# Altium footprint library MF-CONNECTORS.PcbLib: 12 footprints
Each footprint in its own frame and in the unit in brackets; x right, y up, seen from the top. Pads: shape width x height; smd on the part's side, far side on the other; paste and mask are expansions set on the pad; w line width, h text height; cw(c..) or ccw(c..) is an arc to the next point about the centre after c.
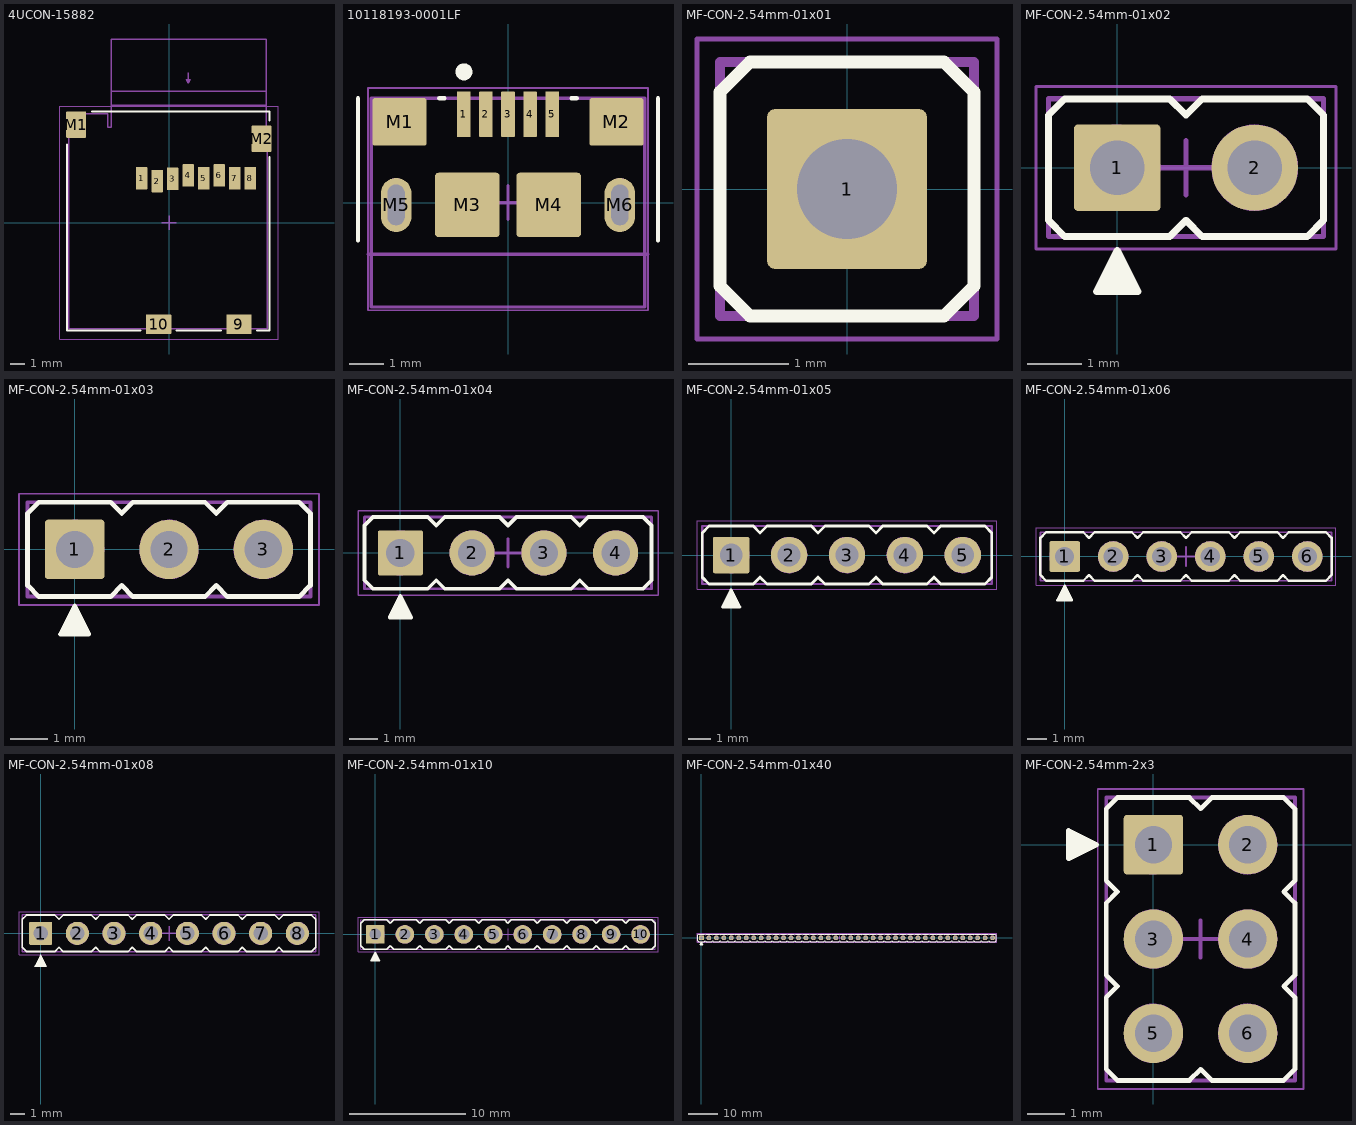
[diagram p0: the footprints below, top view; thin cyan lines are the x and y axes]

## 4UCON-15882 [mm] "Micro SD Card Slot PUSH PUSH Type Right Angle"
height 1.85
pads (12):
  rrect10% 0.8x1.6 smd mask+0.05: 1(-1.938,3.15) 2(-0.838,2.95) 3(0.262,3.11) 4(1.362,3.35) 5(2.462,3.15) 6(3.562,3.35) 7(4.662,3.15) 8(5.762,3.15)
  rrect10% 1.8x1.4 smd mask+0.05: 9(4.962,-7.2) 10(-0.738,-7.2)
  rrect10% 1.4x1.9 smd mask+0.05: M1(-6.588,6.95) M2(6.562,5.95)
Top Overlay:
  lines w0.127: -7.223,5.565 -7.223,-7.643 -2.016,-7.643 ; -5.461,7.874 7.128,7.874 7.128,7.239 ; 0.524,-7.643 3.699,-7.643 ; 6.239,-7.643 7.128,-7.643 7.128,4.676
Top Assembly:
  lines w0.1: -4.096,8.324 6.904,8.324 ; -4.096,9.324 6.904,9.324 ; 1.366,10.635 1.366,9.873 ; 1.366,9.873 1.239,10.127 1.493,10.127 1.366,9.873 ; -7.096,-7.526 -7.096,7.724 -4.349,7.717 -4.349,6.774 -4.096,6.774 -4.096,13.024 6.904,13.024 6.904,6.774 6.954,6.774 6.954,-7.526 -7.096,-7.526
  text "PUSH IN" at 0.701,7.891 h0.2
  text "CARD LOCK" at 0.655,8.917 h0.2
  text "PUSH OUT" at 0.528,12.6 h0.2
Top Courtyard:
  lines w0.05: -7.75,-8.25 -7.75,8.25 7.75,8.25 7.75,-8.25 -7.75,-8.25
  lines w0.1: -0.5,0 0.5,0 ; 0,-0.5 0,0.5
3D body: height 1.85, standoff 0, extent -7.096,-7.526 6.954,7.724

## 10118193-0001LF [mm] "Micro USB Connector Type B Right Angle"
height 3.1
pads (11):
  rrect10% 0.4x1.35 smd paste+0 mask+0.05: 1(-1.3,2.605) 2(-0.65,2.605) 3(0,2.605) 4(0.65,2.605) 5(1.3,2.605)
  rrect10% 1.6x1.4 smd paste+0 mask+0.05: M1(-3.2,2.38) M2(3.2,2.38)
  rrect10% 1.9x1.9 smd paste+0 mask+0.05: M3(-1.2,-0.07) M4(1.2,-0.07)
  rrect100% 0.9x1.6 hole 1.2 slot 0.5 at 0 deg paste-1000 mask+0.05: M5(-3.3,-0.07) M6(3.3,-0.07)
Top Overlay:
  circle w0.25: c-1.3,3.855 r0.125
  lines w0.127: -4.425,-1.12 -4.425,3.08 ; -2.025,3.08 -1.875,3.08 ; 1.875,3.08 2.025,3.08 ; 4.425,-1.12 4.425,3.08
Top Assembly:
  lines w0.1: -4.13,-1.52 4.13,-1.52 ; -4.03,-3.08 -4.03,3.08 4.03,3.08 4.03,-3.08 -4.03,-3.08
Bottom THT Solder (Mech12):
  lines w0.7: -3.302,-0.508 -3.302,0.381 ; 3.302,-0.508 3.302,0.381
Top Courtyard:
  lines w0.05: -4.13,-3.18 -4.13,3.38 4.13,3.38 4.13,-3.18 -4.13,-3.18
  lines w0.1: -0.5,0 0.5,0 ; 0,-0.5 0,0.5
3D body "Conn_Amphenol_ICC_-_FCI_10118193-0001LF_eec.STEP": height 0.25, standoff 0, extent -4.13,-3.18 4.13,3.38

## MF-CON-2.54mm-01x01 [mm] "2.54mm 1x1 Unshrouded 1 Pins, 1 Row of 1, 01x01"
height 6
pads (1):
  rrect10% 1.6x1.6 hole 1 mask+0.07: 1(0,0)
Top Overlay:
  lines w0.127: -1.27,-0.97 -1.27,0.97 -0.97,1.27 0.97,1.27 1.27,0.97 1.27,-0.97 0.97,-1.27 -0.97,-1.27 -1.27,-0.97
Top Assembly:
  lines w0.1: -1.27,-1.27 1.27,-1.27 1.27,1.27 -1.27,1.27 -1.27,-1.27
Bottom THT Solder (Mech12):
  circle w0.8: c0,0 r0.4
Top Courtyard:
  lines w0.05: -1.5,-1.5 -1.5,1.5 1.5,1.5 1.5,-1.5 -1.5,-1.5
  lines w0.1: -0.5,0 0.5,0 ; 0,-0.5 0,0.5
3D body "User Library-Header Vertical 2_54mm Pitch2-1.x_t": height 5.95, standoff -2.93, extent -1.27,-1.27 1.27,1.27

## MF-CON-2.54mm-01x02 [mm] "2.54mm 1x2 Unshrouded 2 Pins, 1 Row of 2, 01x02"
height 6
pads (2):
  rrect10% 1.6x1.6 hole 1 mask+0.07: 1(0,0)
  round 1.6 hole 1 mask+0.07: 2(2.54,0)
Top Overlay:
  region: 0,-1.524 0.381,-2.286 -0.381,-2.286
  lines w0.127: -1.27,-0.97 -1.27,0.97 -0.97,1.27 0.97,1.27 1.27,0.97 1.57,1.27 3.51,1.27 3.81,0.97 3.81,-0.97 3.51,-1.27 1.57,-1.27 1.27,-0.97 0.97,-1.27 -0.97,-1.27 -1.27,-0.97 ; -0.381,-2.286 0.381,-2.286 0,-1.524 -0.381,-2.286
Top Assembly:
  lines w0.1: -1.27,-1.27 3.81,-1.27 3.81,1.27 -1.27,1.27 -1.27,-1.27
Bottom THT Solder (Mech12):
  circle w0.8: c2.54,0 r0.4
  circle w0.8: c0,0 r0.4
Top Courtyard:
  lines w0.05: -1.5,-1.5 -1.5,1.5 4.04,1.5 4.04,-1.5 -1.5,-1.5
  lines w0.1: 0.77,0 1.77,0 ; 1.27,-0.5 1.27,0.5
3D body "User Library-Header Vertical 2_54mm Pitch2-1.x_t": height 5.95, standoff -2.93, extent 1.27,-1.27 3.81,1.27
3D body "User Library-Header Vertical 2_54mm Pitch2-1.x_t": height 5.95, standoff -2.93, extent -1.27,-1.27 1.27,1.27

## MF-CON-2.54mm-01x03 [mm] "2.54mm 1x3 Unshrouded 3 Pins, 1 Row of 3, 01x03"
height 6
pads (3):
  rrect10% 1.6x1.6 hole 1 mask+0.07: 1(0,0)
  round 1.6 hole 1 mask+0.07: 2(2.54,0) 3(5.08,0)
Top Overlay:
  region: 0,-1.524 0.381,-2.286 -0.381,-2.286
  lines w0.127: -1.27,-0.97 -0.97,-1.27 0.97,-1.27 1.27,-0.97 1.57,-1.27 3.51,-1.27 3.81,-0.97 4.11,-1.27 6.05,-1.27 6.35,-0.97 6.35,0.97 6.05,1.27 4.11,1.27 3.81,0.97 3.51,1.27 1.57,1.27 1.27,0.97 0.97,1.27 -0.97,1.27 -1.27,0.97 -1.27,-0.97 ; -0.381,-2.286 0.381,-2.286 0,-1.524 -0.381,-2.286
Top Assembly:
  lines w0.1: -1.27,-1.27 -1.27,1.27 6.35,1.27 6.35,-1.27 -1.27,-1.27
Bottom THT Solder (Mech12):
  circle w0.8: c5.08,0 r0.4
  circle w0.8: c0,0 r0.4
  circle w0.8: c2.54,0 r0.4
Top Courtyard:
  lines w0.05: -1.5,-1.5 6.58,-1.5 6.58,1.5 -1.5,1.5 -1.5,-1.5
  lines w0.1: 2.04,0 3.04,0 ; 2.54,-0.5 2.54,0.5
3D body "User Library-Header Vertical 2_54mm Pitch2-1.x_t": height 5.95, standoff -2.93, extent 3.81,-1.27 6.35,1.27
3D body "User Library-Header Vertical 2_54mm Pitch2-1.x_t": height 5.95, standoff -2.93, extent -1.27,-1.27 1.27,1.27
3D body "User Library-Header Vertical 2_54mm Pitch2-1.x_t": height 5.95, standoff -2.93, extent 1.27,-1.27 3.81,1.27

## MF-CON-2.54mm-01x04 [mm] "2.54mm 1x4 Unshrouded 4 Pins, 1 Row of 4, 01x04"
height 6
pads (4):
  rrect10% 1.6x1.6 hole 1 mask+0.07: 1(0,0)
  round 1.6 hole 1 mask+0.07: 2(2.54,0) 3(5.08,0) 4(7.62,0)
Top Overlay:
  region: 0,-1.524 0.381,-2.286 -0.381,-2.286
  lines w0.127: -1.27,-0.97 -0.97,-1.27 0.97,-1.27 1.27,-0.97 1.57,-1.27 3.51,-1.27 3.81,-0.97 4.11,-1.27 6.05,-1.27 6.35,-0.97 6.65,-1.27 8.59,-1.27 8.89,-0.97 8.89,0.97 8.59,1.27 6.65,1.27 6.35,0.97 6.05,1.27 4.11,1.27 3.81,0.97 3.51,1.27 1.57,1.27 1.27,0.97 0.97,1.27 -0.97,1.27 -1.27,0.97 -1.27,-0.97 ; -0.381,-2.286 0,-1.524 0.381,-2.286 -0.381,-2.286
Top Assembly:
  lines w0.1: -1.27,-1.27 -1.27,1.27 8.89,1.27 8.89,-1.27 -1.27,-1.27
Bottom THT Solder (Mech12):
  circle w0.8: c5.08,0 r0.4
  circle w0.8: c0,0 r0.4
  circle w0.8: c2.54,0 r0.4
  circle w0.8: c7.62,0 r0.4
Top Courtyard:
  lines w0.05: -1.5,-1.5 9.12,-1.5 9.12,1.5 -1.5,1.5 -1.5,-1.5
  lines w0.1: 3.31,0 4.31,0 ; 3.81,-0.5 3.81,0.5
3D body "User Library-Header Vertical 2_54mm Pitch2-1.x_t": height 5.95, standoff -2.93, extent 3.81,-1.27 6.35,1.27
3D body "User Library-Header Vertical 2_54mm Pitch2-1.x_t": height 5.95, standoff -2.93, extent -1.27,-1.27 1.27,1.27
3D body "User Library-Header Vertical 2_54mm Pitch2-1.x_t": height 5.95, standoff -2.93, extent 1.27,-1.27 3.81,1.27
3D body "User Library-Header Vertical 2_54mm Pitch2-1.x_t": height 5.95, standoff -2.93, extent 6.35,-1.27 8.89,1.27

## MF-CON-2.54mm-01x05 [mm] "2.54mm 1x5 Unshrouded 5 Pins, 1 Row of 5, 01x05"
height 6
pads (5):
  rrect10% 1.6x1.6 hole 1 mask+0.07: 1(0,0)
  round 1.6 hole 1 mask+0.07: 2(2.54,0) 3(5.08,0) 4(7.62,0) 5(10.16,0)
Top Overlay:
  region: 0,-1.524 0.381,-2.286 -0.381,-2.286
  lines w0.127: -1.27,-0.97 -1.27,0.97 -0.97,1.27 0.97,1.27 1.27,0.97 1.57,1.27 3.51,1.27 3.81,0.97 4.11,1.27 6.05,1.27 6.35,0.97 6.65,1.27 8.59,1.27 8.89,0.97 9.19,1.27 11.13,1.27 11.43,0.97 11.43,-0.97 11.13,-1.27 9.19,-1.27 8.89,-0.97 8.59,-1.27 6.65,-1.27 6.35,-0.97 6.05,-1.27 4.11,-1.27 3.81,-0.97 3.51,-1.27 1.57,-1.27 1.27,-0.97 0.97,-1.27 -0.97,-1.27 -1.27,-0.97 ; -0.381,-2.286 0,-1.524 0.381,-2.286 -0.381,-2.286
Top Assembly:
  lines w0.1: -1.27,-1.27 11.43,-1.27 11.43,1.27 -1.27,1.27 -1.27,-1.27
Bottom THT Solder (Mech12):
  circle w0.8: c7.62,0 r0.4
  circle w0.8: c2.54,0 r0.4
  circle w0.8: c0,0 r0.4
  circle w0.8: c5.08,0 r0.4
  circle w0.8: c10.16,0 r0.4
Top Courtyard:
  lines w0.05: -1.5,-1.5 -1.5,1.5 11.66,1.5 11.66,-1.5 -1.5,-1.5
  lines w0.1: 4.58,0 5.58,0 ; 5.08,-0.5 5.08,0.5
3D body "User Library-Header Vertical 2_54mm Pitch2-1.x_t": height 5.95, standoff -2.93, extent 6.35,-1.27 8.89,1.27
3D body "User Library-Header Vertical 2_54mm Pitch2-1.x_t": height 5.95, standoff -2.93, extent 1.27,-1.27 3.81,1.27
3D body "User Library-Header Vertical 2_54mm Pitch2-1.x_t": height 5.95, standoff -2.93, extent -1.27,-1.27 1.27,1.27
3D body "User Library-Header Vertical 2_54mm Pitch2-1.x_t": height 5.95, standoff -2.93, extent 3.81,-1.27 6.35,1.27
3D body "User Library-Header Vertical 2_54mm Pitch2-1.x_t": height 5.95, standoff -2.93, extent 8.89,-1.27 11.43,1.27

## MF-CON-2.54mm-01x06 [mm] "2.54mm 1x6 Unshrouded 6 Pins, 1 Row of 6, 01x06"
height 6
pads (6):
  rrect10% 1.6x1.6 hole 1 mask+0.07: 1(0,0)
  round 1.6 hole 1 mask+0.07: 2(2.54,0) 3(5.08,0) 4(7.62,0) 5(10.16,0) 6(12.7,0)
Top Overlay:
  region: 0,-1.524 0.381,-2.286 -0.381,-2.286
  lines w0.127: -1.27,-0.97 -1.27,0.97 -0.97,1.27 0.97,1.27 1.27,0.97 1.57,1.27 3.51,1.27 3.81,0.97 4.11,1.27 6.05,1.27 6.35,0.97 6.65,1.27 8.59,1.27 8.89,0.97 9.19,1.27 11.13,1.27 11.43,0.97 11.73,1.27 13.67,1.27 13.97,0.97 13.97,-0.97 13.67,-1.27 11.73,-1.27 11.43,-0.97 11.13,-1.27 9.19,-1.27 8.89,-0.97 8.59,-1.27 6.65,-1.27 6.35,-0.97 6.05,-1.27 4.11,-1.27 3.81,-0.97 3.51,-1.27 1.57,-1.27 1.27,-0.97 0.97,-1.27 -0.97,-1.27 -1.27,-0.97 ; -0.381,-2.286 0,-1.524 0.381,-2.286 -0.381,-2.286
Top Assembly:
  lines w0.1: -1.27,-1.27 13.97,-1.27 13.97,1.27 -1.27,1.27 -1.27,-1.27
Bottom THT Solder (Mech12):
  circle w0.8: c12.7,0 r0.4
  circle w0.8: c7.62,0 r0.4
  circle w0.8: c2.54,0 r0.4
  circle w0.8: c0,0 r0.4
  circle w0.8: c5.08,0 r0.4
  circle w0.8: c10.16,0 r0.4
Top Courtyard:
  lines w0.05: -1.5,-1.5 -1.5,1.5 14.2,1.5 14.2,-1.5 -1.5,-1.5
  lines w0.1: 5.85,0 6.85,0 ; 6.35,-0.5 6.35,0.5
3D body "User Library-Header Vertical 2_54mm Pitch2-1.x_t": height 5.95, standoff -2.93, extent 11.43,-1.27 13.97,1.27
3D body "User Library-Header Vertical 2_54mm Pitch2-1.x_t": height 5.95, standoff -2.93, extent 6.35,-1.27 8.89,1.27
3D body "User Library-Header Vertical 2_54mm Pitch2-1.x_t": height 5.95, standoff -2.93, extent 1.27,-1.27 3.81,1.27
3D body "User Library-Header Vertical 2_54mm Pitch2-1.x_t": height 5.95, standoff -2.93, extent -1.27,-1.27 1.27,1.27
3D body "User Library-Header Vertical 2_54mm Pitch2-1.x_t": height 5.95, standoff -2.93, extent 3.81,-1.27 6.35,1.27
3D body "User Library-Header Vertical 2_54mm Pitch2-1.x_t": height 5.95, standoff -2.93, extent 8.89,-1.27 11.43,1.27

## MF-CON-2.54mm-01x08 [mm] "2.54mm 1x8 Unshrouded 8 Pins, 1 Row of 8, 01x08"
height 6
pads (8):
  rrect10% 1.6x1.6 hole 1 mask+0.07: 1(0,0)
  round 1.6 hole 1 mask+0.07: 2(2.54,0) 3(5.08,0) 4(7.62,0) 5(10.16,0) 6(12.7,0) 7(15.24,0) 8(17.78,0)
Top Overlay:
  region: 0,-1.524 0.381,-2.286 -0.381,-2.286
  lines w0.127: -1.27,-0.97 -0.97,-1.27 0.97,-1.27 1.27,-0.97 1.57,-1.27 3.51,-1.27 3.81,-0.97 4.11,-1.27 6.05,-1.27 6.35,-0.97 6.65,-1.27 8.59,-1.27 8.89,-0.97 9.19,-1.27 11.13,-1.27 11.43,-0.97 11.73,-1.27 13.67,-1.27 13.97,-0.97 14.27,-1.27 16.21,-1.27 16.51,-0.97 16.81,-1.27 18.75,-1.27 19.05,-0.97 19.05,0.97 18.75,1.27 16.81,1.27 16.51,0.97 16.21,1.27 14.27,1.27 13.97,0.97 13.67,1.27 11.73,1.27 11.43,0.97 11.13,1.27 9.19,1.27 8.89,0.97 8.59,1.27 6.65,1.27 6.35,0.97 6.05,1.27 4.11,1.27 3.81,0.97 3.51,1.27 1.57,1.27 1.27,0.97 0.97,1.27 -0.97,1.27 -1.27,0.97 -1.27,-0.97 ; -0.381,-2.286 0,-1.524 0.381,-2.286 -0.381,-2.286
Top Assembly:
  lines w0.1: -1.27,-1.27 -1.27,1.27 19.05,1.27 19.05,-1.27 -1.27,-1.27
Bottom THT Solder (Mech12):
  circle w0.8: c15.24,0 r0.4
  circle w0.8: c17.78,0 r0.4
  circle w0.8: c10.16,0 r0.4
  circle w0.8: c5.08,0 r0.4
  circle w0.8: c0,0 r0.4
  circle w0.8: c2.54,0 r0.4
  circle w0.8: c7.62,0 r0.4
  circle w0.8: c12.7,0 r0.4
Top Courtyard:
  lines w0.05: -1.5,-1.5 19.28,-1.5 19.28,1.5 -1.5,1.5 -1.5,-1.5
  lines w0.1: 8.39,0 9.39,0 ; 8.89,-0.5 8.89,0.5
3D body "User Library-Header Vertical 2_54mm Pitch2-1.x_t": height 5.95, standoff -2.93, extent 13.97,-1.27 16.51,1.27
3D body "User Library-Header Vertical 2_54mm Pitch2-1.x_t": height 5.95, standoff -2.93, extent 16.51,-1.27 19.05,1.27
3D body "User Library-Header Vertical 2_54mm Pitch2-1.x_t": height 5.95, standoff -2.93, extent 8.89,-1.27 11.43,1.27
3D body "User Library-Header Vertical 2_54mm Pitch2-1.x_t": height 5.95, standoff -2.93, extent 3.81,-1.27 6.35,1.27
3D body "User Library-Header Vertical 2_54mm Pitch2-1.x_t": height 5.95, standoff -2.93, extent -1.27,-1.27 1.27,1.27
3D body "User Library-Header Vertical 2_54mm Pitch2-1.x_t": height 5.95, standoff -2.93, extent 1.27,-1.27 3.81,1.27
3D body "User Library-Header Vertical 2_54mm Pitch2-1.x_t": height 5.95, standoff -2.93, extent 6.35,-1.27 8.89,1.27
3D body "User Library-Header Vertical 2_54mm Pitch2-1.x_t": height 5.95, standoff -2.93, extent 11.43,-1.27 13.97,1.27

## MF-CON-2.54mm-01x10 [mm] "2.54mm 1x10 Unshrouded 10 Pins, 1 Row of 10, 01x10"
height 6
pads (10):
  rrect10% 1.6x1.6 hole 1 mask+0.07: 1(0,0)
  round 1.6 hole 1 mask+0.07: 2(2.54,0) 3(5.08,0) 4(7.62,0) 5(10.16,0) 6(12.7,0) 7(15.24,0) 8(17.78,0) 9(20.32,0) 10(22.86,0)
Top Overlay:
  region: 0,-1.524 0.381,-2.286 -0.381,-2.286
  lines w0.127: 18.75,-1.27 19.05,-0.97 ; 18.75,-1.27 19.05,-0.97 ; 18.75,-1.27 16.81,-1.27 16.51,-0.97 16.21,-1.27 14.27,-1.27 13.97,-0.97 13.67,-1.27 11.73,-1.27 11.43,-0.97 11.13,-1.27 9.19,-1.27 8.89,-0.97 8.59,-1.27 6.65,-1.27 6.35,-0.97 6.05,-1.27 4.11,-1.27 3.81,-0.97 3.51,-1.27 1.57,-1.27 1.27,-0.97 0.97,-1.27 -0.97,-1.27 -1.27,-0.97 -1.27,0.97 -0.97,1.27 0.97,1.27 1.27,0.97 1.57,1.27 3.51,1.27 3.81,0.97 4.11,1.27 6.05,1.27 6.35,0.97 6.65,1.27 8.59,1.27 8.89,0.97 9.19,1.27 11.13,1.27 11.43,0.97 11.73,1.27 13.67,1.27 13.97,0.97 14.27,1.27 16.21,1.27 16.51,0.97 16.81,1.27 18.75,1.27 ; 18.75,1.27 19.05,0.97 ; 18.75,1.27 19.05,0.97 ; 19.05,-0.97 19.35,-1.27 21.29,-1.27 21.59,-0.97 21.89,-1.27 23.83,-1.27 24.13,-0.97 24.13,0.97 23.83,1.27 21.89,1.27 21.59,0.97 21.29,1.27 19.35,1.27 19.05,0.97 ; -0.381,-2.286 0,-1.524 0.381,-2.286 -0.381,-2.286
Top Assembly:
  lines w0.1: -1.27,-1.27 24.13,-1.27 24.13,1.27 -1.27,1.27 -1.27,-1.27
Bottom THT Solder (Mech12):
  circle w0.8: c22.86,0 r0.4
  circle w0.8: c20.32,0 r0.4
  circle w0.8: c12.7,0 r0.4
  circle w0.8: c7.62,0 r0.4
  circle w0.8: c2.54,0 r0.4
  circle w0.8: c0,0 r0.4
  circle w0.8: c5.08,0 r0.4
  circle w0.8: c10.16,0 r0.4
  circle w0.8: c17.78,0 r0.4
  circle w0.8: c15.24,0 r0.4
Top Courtyard:
  lines w0.05: -1.5,-1.5 -1.5,1.5 24.36,1.5 24.36,-1.5 -1.5,-1.5
  lines w0.1: 10.93,0 11.93,0 ; 11.43,-0.5 11.43,0.5
3D body "User Library-Header Vertical 2_54mm Pitch2-1.x_t": height 5.95, standoff -2.93, extent 21.59,-1.27 24.13,1.27
3D body "User Library-Header Vertical 2_54mm Pitch2-1.x_t": height 5.95, standoff -2.93, extent 19.05,-1.27 21.59,1.27
3D body "User Library-Header Vertical 2_54mm Pitch2-1.x_t": height 5.95, standoff -2.93, extent 11.43,-1.27 13.97,1.27
3D body "User Library-Header Vertical 2_54mm Pitch2-1.x_t": height 5.95, standoff -2.93, extent 6.35,-1.27 8.89,1.27
3D body "User Library-Header Vertical 2_54mm Pitch2-1.x_t": height 5.95, standoff -2.93, extent 1.27,-1.27 3.81,1.27
3D body "User Library-Header Vertical 2_54mm Pitch2-1.x_t": height 5.95, standoff -2.93, extent -1.27,-1.27 1.27,1.27
3D body "User Library-Header Vertical 2_54mm Pitch2-1.x_t": height 5.95, standoff -2.93, extent 3.81,-1.27 6.35,1.27
3D body "User Library-Header Vertical 2_54mm Pitch2-1.x_t": height 5.95, standoff -2.93, extent 8.89,-1.27 11.43,1.27
3D body "User Library-Header Vertical 2_54mm Pitch2-1.x_t": height 5.95, standoff -2.93, extent 16.51,-1.27 19.05,1.27
3D body "User Library-Header Vertical 2_54mm Pitch2-1.x_t": height 5.95, standoff -2.93, extent 13.97,-1.27 16.51,1.27

## MF-CON-2.54mm-01x40 [mm] "2.54mm 1x40 Unshrouded 40 Pins, 1 Row of 40, 01x40"
height 6
pads (40):
  rrect10% 1.6x1.6 hole 1 mask+0.07: 1(0,0)
  round 1.6 hole 1 mask+0.07: 2(2.54,0) 3(5.08,0) 4(7.62,0) 5(10.16,0) 6(12.7,0) 7(15.24,0) 8(17.78,0) 9(20.32,0) 10(22.86,0) 11(25.4,0) 12(27.94,0) 13(30.48,0) 14(33.02,0) 15(35.56,0) 16(38.1,0) 17(40.64,0) 18(43.18,0) 19(45.72,0) 20(48.26,0) 21(50.8,0) 22(53.34,0) 23(55.88,0) 24(58.42,0) 25(60.96,0) 26(63.5,0) 27(66.04,0) 28(68.58,0) 29(71.12,0) 30(73.66,0) 31(76.2,0) 32(78.74,0) 33(81.28,0) 34(83.82,0) 35(86.36,0) 36(88.9,0) 37(91.44,0) 38(93.98,0) 39(96.52,0) 40(99.06,0)
Top Overlay:
  drawing of 254 lines, arcs and shapes, not listed
Top Assembly:
  lines w0.1: -1.27,-1.27 -1.27,1.27 100.33,1.27 100.33,-1.27 -1.27,-1.27
Bottom THT Solder (Mech12):
  circle w0.8: c91.44,0 r0.4
  circle w0.8: c93.98,0 r0.4
  circle w0.8: c86.36,0 r0.4
  circle w0.8: c81.28,0 r0.4
  circle w0.8: c76.2,0 r0.4
  circle w0.8: c78.74,0 r0.4
  circle w0.8: c83.82,0 r0.4
  circle w0.8: c88.9,0 r0.4
  circle w0.8: c96.52,0 r0.4
  circle w0.8: c99.06,0 r0.4
  circle w0.8: c66.04,0 r0.4
  circle w0.8: c68.58,0 r0.4
  circle w0.8: c60.96,0 r0.4
  circle w0.8: c55.88,0 r0.4
  circle w0.8: c50.8,0 r0.4
  circle w0.8: c53.34,0 r0.4
  circle w0.8: c58.42,0 r0.4
  circle w0.8: c63.5,0 r0.4
  circle w0.8: c71.12,0 r0.4
  circle w0.8: c73.66,0 r0.4
  circle w0.8: c40.64,0 r0.4
  circle w0.8: c43.18,0 r0.4
  circle w0.8: c35.56,0 r0.4
  circle w0.8: c30.48,0 r0.4
  circle w0.8: c25.4,0 r0.4
  circle w0.8: c27.94,0 r0.4
  circle w0.8: c33.02,0 r0.4
  circle w0.8: c38.1,0 r0.4
  circle w0.8: c45.72,0 r0.4
  circle w0.8: c48.26,0 r0.4
  circle w0.8: c15.24,0 r0.4
  circle w0.8: c17.78,0 r0.4
  circle w0.8: c10.16,0 r0.4
  circle w0.8: c5.08,0 r0.4
  circle w0.8: c0,0 r0.4
  circle w0.8: c2.54,0 r0.4
  circle w0.8: c7.62,0 r0.4
  circle w0.8: c12.7,0 r0.4
  circle w0.8: c20.32,0 r0.4
  circle w0.8: c22.86,0 r0.4
Top Courtyard:
  lines w0.05: -1.5,-1.5 100.56,-1.5 100.56,1.5 -1.5,1.5 -1.5,-1.5
  lines w0.1: 46.49,0 47.49,0 ; 46.99,-0.5 46.99,0.5
3D body "User Library-Header Vertical 2_54mm Pitch2-1.x_t": height 5.95, standoff -2.93, extent 90.17,-1.27 92.71,1.27
3D body "User Library-Header Vertical 2_54mm Pitch2-1.x_t": height 5.95, standoff -2.93, extent 92.71,-1.27 95.25,1.27
3D body "User Library-Header Vertical 2_54mm Pitch2-1.x_t": height 5.95, standoff -2.93, extent 85.09,-1.27 87.63,1.27
3D body "User Library-Header Vertical 2_54mm Pitch2-1.x_t": height 5.95, standoff -2.93, extent 80.01,-1.27 82.55,1.27
3D body "User Library-Header Vertical 2_54mm Pitch2-1.x_t": height 5.95, standoff -2.93, extent 74.93,-1.27 77.47,1.27
3D body "User Library-Header Vertical 2_54mm Pitch2-1.x_t": height 5.95, standoff -2.93, extent 77.47,-1.27 80.01,1.27
3D body "User Library-Header Vertical 2_54mm Pitch2-1.x_t": height 5.95, standoff -2.93, extent 82.55,-1.27 85.09,1.27
3D body "User Library-Header Vertical 2_54mm Pitch2-1.x_t": height 5.95, standoff -2.93, extent 87.63,-1.27 90.17,1.27
3D body "User Library-Header Vertical 2_54mm Pitch2-1.x_t": height 5.95, standoff -2.93, extent 95.25,-1.27 97.79,1.27
3D body "User Library-Header Vertical 2_54mm Pitch2-1.x_t": height 5.95, standoff -2.93, extent 97.79,-1.27 100.33,1.27
3D body "User Library-Header Vertical 2_54mm Pitch2-1.x_t": height 5.95, standoff -2.93, extent 64.77,-1.27 67.31,1.27
3D body "User Library-Header Vertical 2_54mm Pitch2-1.x_t": height 5.95, standoff -2.93, extent 67.31,-1.27 69.85,1.27
3D body "User Library-Header Vertical 2_54mm Pitch2-1.x_t": height 5.95, standoff -2.93, extent 59.69,-1.27 62.23,1.27
3D body "User Library-Header Vertical 2_54mm Pitch2-1.x_t": height 5.95, standoff -2.93, extent 54.61,-1.27 57.15,1.27
3D body "User Library-Header Vertical 2_54mm Pitch2-1.x_t": height 5.95, standoff -2.93, extent 49.53,-1.27 52.07,1.27
3D body "User Library-Header Vertical 2_54mm Pitch2-1.x_t": height 5.95, standoff -2.93, extent 52.07,-1.27 54.61,1.27
3D body "User Library-Header Vertical 2_54mm Pitch2-1.x_t": height 5.95, standoff -2.93, extent 57.15,-1.27 59.69,1.27
3D body "User Library-Header Vertical 2_54mm Pitch2-1.x_t": height 5.95, standoff -2.93, extent 62.23,-1.27 64.77,1.27
3D body "User Library-Header Vertical 2_54mm Pitch2-1.x_t": height 5.95, standoff -2.93, extent 69.85,-1.27 72.39,1.27
3D body "User Library-Header Vertical 2_54mm Pitch2-1.x_t": height 5.95, standoff -2.93, extent 72.39,-1.27 74.93,1.27
3D body "User Library-Header Vertical 2_54mm Pitch2-1.x_t": height 5.95, standoff -2.93, extent 39.37,-1.27 41.91,1.27
3D body "User Library-Header Vertical 2_54mm Pitch2-1.x_t": height 5.95, standoff -2.93, extent 41.91,-1.27 44.45,1.27
3D body "User Library-Header Vertical 2_54mm Pitch2-1.x_t": height 5.95, standoff -2.93, extent 34.29,-1.27 36.83,1.27
3D body "User Library-Header Vertical 2_54mm Pitch2-1.x_t": height 5.95, standoff -2.93, extent 29.21,-1.27 31.75,1.27
3D body "User Library-Header Vertical 2_54mm Pitch2-1.x_t": height 5.95, standoff -2.93, extent 24.13,-1.27 26.67,1.27
3D body "User Library-Header Vertical 2_54mm Pitch2-1.x_t": height 5.95, standoff -2.93, extent 26.67,-1.27 29.21,1.27
3D body "User Library-Header Vertical 2_54mm Pitch2-1.x_t": height 5.95, standoff -2.93, extent 31.75,-1.27 34.29,1.27
3D body "User Library-Header Vertical 2_54mm Pitch2-1.x_t": height 5.95, standoff -2.93, extent 36.83,-1.27 39.37,1.27
3D body "User Library-Header Vertical 2_54mm Pitch2-1.x_t": height 5.95, standoff -2.93, extent 44.45,-1.27 46.99,1.27
3D body "User Library-Header Vertical 2_54mm Pitch2-1.x_t": height 5.95, standoff -2.93, extent 46.99,-1.27 49.53,1.27
3D body "User Library-Header Vertical 2_54mm Pitch2-1.x_t": height 5.95, standoff -2.93, extent 13.97,-1.27 16.51,1.27
3D body "User Library-Header Vertical 2_54mm Pitch2-1.x_t": height 5.95, standoff -2.93, extent 16.51,-1.27 19.05,1.27
3D body "User Library-Header Vertical 2_54mm Pitch2-1.x_t": height 5.95, standoff -2.93, extent 8.89,-1.27 11.43,1.27
3D body "User Library-Header Vertical 2_54mm Pitch2-1.x_t": height 5.95, standoff -2.93, extent 3.81,-1.27 6.35,1.27
3D body "User Library-Header Vertical 2_54mm Pitch2-1.x_t": height 5.95, standoff -2.93, extent -1.27,-1.27 1.27,1.27
3D body "User Library-Header Vertical 2_54mm Pitch2-1.x_t": height 5.95, standoff -2.93, extent 1.27,-1.27 3.81,1.27
3D body "User Library-Header Vertical 2_54mm Pitch2-1.x_t": height 5.95, standoff -2.93, extent 6.35,-1.27 8.89,1.27
3D body "User Library-Header Vertical 2_54mm Pitch2-1.x_t": height 5.95, standoff -2.93, extent 11.43,-1.27 13.97,1.27
3D body "User Library-Header Vertical 2_54mm Pitch2-1.x_t": height 5.95, standoff -2.93, extent 19.05,-1.27 21.59,1.27
3D body "User Library-Header Vertical 2_54mm Pitch2-1.x_t": height 5.95, standoff -2.93, extent 21.59,-1.27 24.13,1.27

## MF-CON-2.54mm-2x3 [mm] "Header 2.54mm 2x3 Unshrouded 6 Pins, 2 Rows of 3, 02x03"
height 6
pads (6):
  rrect10% 1.6x1.6 hole 1 mask+0.07: 1(0,0)
  round 1.6 hole 1 mask+0.07: 2(2.54,0) 3(0,-2.54) 4(2.54,-2.54) 5(0,-5.08) 6(2.54,-5.08)
Top Overlay:
  region: -1.524,0 -2.286,-0.381 -2.286,0.381
  lines w0.127: -2.286,-0.381 -2.286,0.381 -1.524,0 -2.286,-0.381 ; -1.27,-6.05 -0.97,-6.35 0.97,-6.35 1.27,-6.05 1.57,-6.35 3.51,-6.35 3.81,-6.05 3.81,-4.11 3.51,-3.81 3.81,-3.51 3.81,-1.57 3.51,-1.27 3.81,-0.97 3.81,0.97 3.51,1.27 1.57,1.27 1.27,0.97 0.97,1.27 -0.97,1.27 -1.27,0.97 -1.27,-0.97 -0.97,-1.27 -1.27,-1.57 -1.27,-3.51 -0.97,-3.81 -1.27,-4.11 -1.27,-6.05
Top Assembly:
  lines w0.1: -1.27,-6.35 -1.27,1.27 3.81,1.27 3.81,-6.35 -1.27,-6.35
Bottom THT Solder (Mech12):
  circle w0.8: c0,0 r0.4
  circle w0.8: c2.54,0 r0.4
  circle w0.8: c0,-2.54 r0.4
  circle w0.8: c2.54,-2.54 r0.4
  circle w0.8: c0,-5.08 r0.4
  circle w0.8: c2.54,-5.08 r0.4
Top Courtyard:
  lines w0.05: -1.5,-6.58 -1.5,1.5 4.04,1.5 4.04,-6.58 -1.5,-6.58
  lines w0.1: 0.77,-2.54 1.77,-2.54 ; 1.27,-3.04 1.27,-2.04
3D body "User Library-Header Vertical 2_54mm Pitch2-1.x_t": height 5.95, standoff -2.93, extent -1.27,-1.27 1.27,1.27
3D body "User Library-Header Vertical 2_54mm Pitch2-1.x_t": height 5.95, standoff -2.93, extent 1.27,-1.27 3.81,1.27
3D body "User Library-Header Vertical 2_54mm Pitch2-1.x_t": height 5.95, standoff -2.93, extent -1.27,-3.81 1.27,-1.27
3D body "User Library-Header Vertical 2_54mm Pitch2-1.x_t": height 5.95, standoff -2.93, extent 1.27,-3.81 3.81,-1.27
3D body "User Library-Header Vertical 2_54mm Pitch2-1.x_t": height 5.95, standoff -2.93, extent -1.27,-6.35 1.27,-3.81
3D body "User Library-Header Vertical 2_54mm Pitch2-1.x_t": height 5.95, standoff -2.93, extent 1.27,-6.35 3.81,-3.81